# Altium footprint library MechanicalRelay.PcbLib: 1 footprints
Each footprint in its own frame and in the unit in brackets; x right, y up, seen from the top. Pads: shape width x height; smd on the part's side, far side on the other; paste and mask are expansions set on the pad; w line width, h text height; cw(c..) or ccw(c..) is an arc to the next point about the centre after c.
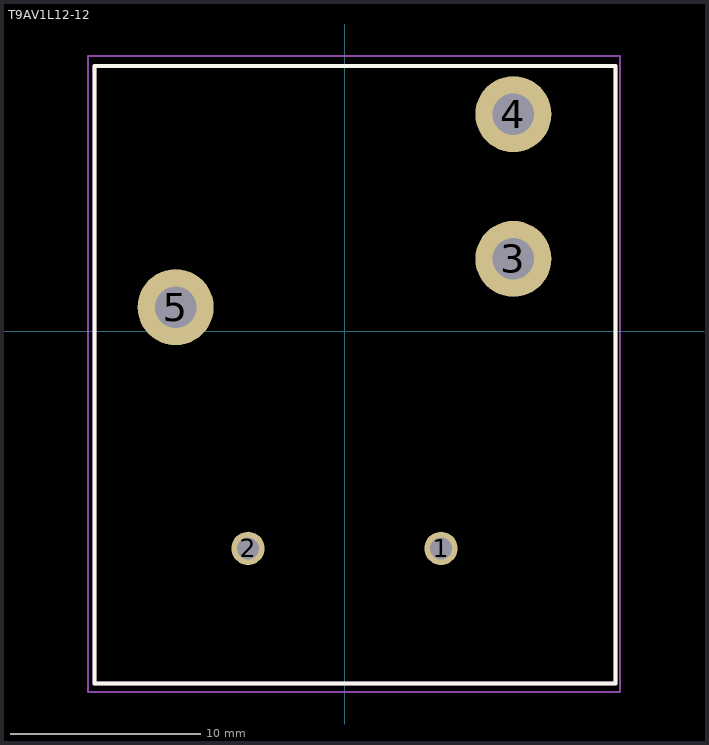
[diagram p0: the footprint, top view; thin cyan lines are the x and y axes]

## T9AV1L12-12 [mm] "General Purpose Relay SPST-NO (1 Form A) 12VDC Coil Through Hole"
pads (5):
  round 1.755 hole 1.17: 1(5.08,-11.43) 2(-5.08,-11.43)
  round 4 hole 2.19: 3(8.89,3.81) 4(8.89,11.43) 5(-8.89,1.27)
Top Overlay:
  lines w0.2: -13.16,-18.54 -13.16,13.97 14.27,13.97 14.27,-18.54 -13.16,-18.54
Mechanical 13:
  lines w0.2: -13.16,-18.54 -13.16,13.97 14.27,13.97 14.27,-18.54 -13.16,-18.54
Mechanical 15:
  lines w0.1: -13.5,-19 -13.5,14.5 14.5,14.5 14.5,-19 -13.5,-19
3D body "c-1-1423091-8-k-3d.stp": height 20.04, standoff -3.71, extent -13.259,-18.756 14.173,13.756